# EAGLE library part DIGITAL-ISOLATOR-2CH-BIDIRECTIONAL-ISO154X (library FlashPCB_ICs)
ISO1540 / ISO1541 - I²C Digital Isolator 2500Vrms 2 Channel 1Mbps 25kV/µs CMTI 8-SOIC (0.154", 3.90mm Width) Technical Specifications: Digital Isolator, 2 Channel, Bi-Directional I2C Interface, Isolated Bi-Directional Supply Voltage: 3V~5V Voltage Isolation: 2500Vrms Data Rate: 1Mpbs, Up to 3.4Mbps ISO1540 suitable for multi-controller applications ISO1541 suitable for single-controller applications Component Search: ISO1540 / ISO1541 <https://www.flashpcb.com/components> Datasheet: ISO154x-Q1 Low-Power Bidirectional I2C Isolators datasheet (Rev. D) <https://www.ti.com/lit/ds/symlink/iso1540-q1.pdf?HQS=dis-dk-null-digikeymode-dsf-pf-null-wwe&ts=1682445149852&ref_url=https%253A%252F%252Fwww.ti.com%252Fgeneral%252Fdocs%252Fsuppproductinfo.tsp%253FdistId%253D10%2526gotoUrl%253Dhttps%253A%252F%252Fwww.ti.com%252Flit%252Fgpn%252Fiso1540-q1>
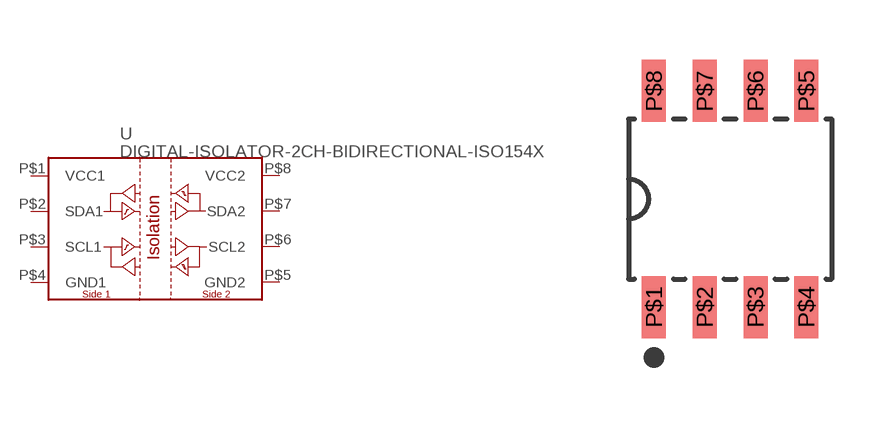
[diagram p42: symbol with the pads of SOIC-8-150MIL-3.9MM; footprint SOIC-8-150MIL-3.9MM]

Designator prefix U

## DIGITAL-ISOLATOR-2CH-BIDIRECTIONAL-ISO154X  [SOIC-8-150MIL-3.9MM]
P$1  VCC1
P$2  SDA1
P$3  SCL1
P$4  GND1
P$5  GND2
P$6  SCL2
P$7  SDA2
P$8  VCC2

## Footprint SOIC-8-150MIL-3.9MM (pad centres in mm)
smd 0.6 x 1.55: P$1 -1.905,-2.7; P$2 -0.635,-2.7; P$3 0.635,-2.7; P$4 1.905,-2.7; P$5 1.905,2.7; P$6 0.635,2.7; P$7 -0.635,2.7; P$8 -1.905,2.7